# Altium footprint library MergenElektronik_MotorControllers_Steppers.PcbLib: 2 footprints
Each footprint in its own frame and in the unit in brackets; x right, y up, seen from the top. Pads: shape width x height; smd on the part's side, far side on the other; paste and mask are expansions set on the pad; w line width, h text height; cw(c..) or ccw(c..) is an arc to the next point about the centre after c.
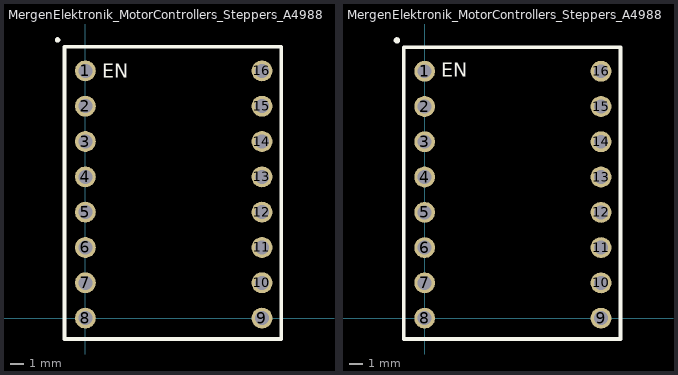
[diagram p0: the footprints below, top view; thin cyan lines are the x and y axes]

## MergenElektronik_MotorControllers_Steppers_A4988-NoHeader [mm] "A4988 No Header"
pads (16):
  round 1.5 hole 1: 1(0,17.78) 2(0,15.24) 3(0,12.7) 4(0,10.16) 5(0,7.62) 6(0,5.08) 7(0,2.54) 8(0,0) 9(12.7,0) 10(12.7,2.54) 11(12.7,5.08) 12(12.7,7.62) 13(12.7,10.16) 14(12.7,12.7) 15(12.7,15.24) 16(12.7,17.78)
Top Overlay:
  circle w0.254: c-2,20 r0.071
  lines w0.254: -1.5,-1.5 14.1,-1.5 14.1,19.5 0,19.5 -1.5,19.5 -1.5,-1.5
  text "EN" at 1.2,17.3 h1
3D body: height 5.7, standoff -5.5, extent -1.18,-1.148 13.78,19.172

## MergenElektronik_MotorControllers_Steppers_A4988-WithHeader [mm] "A4988 With Header"
pads (16):
  round 1.5 hole 1: 1(0,17.78) 2(0,15.24) 3(0,12.7) 4(0,10.16) 5(0,7.62) 6(0,5.08) 7(0,2.54) 8(0,0) 9(12.7,0) 10(12.7,2.54) 11(12.7,5.08) 12(12.7,7.62) 13(12.7,10.16) 14(12.7,12.7) 15(12.7,15.24) 16(12.7,17.78)
Top Overlay:
  circle w0.254: c-2,20 r0.1
  lines w0.254: -1.5,-1.5 -1.5,19.5 0,19.5 14.1,19.5 14.1,-1.5 -1.5,-1.5
  text "EN" at 1.2,17.4 h1
3D body: height 14.05, standoff -3, extent -1.18,-1.5 13.78,19.56